# Altium schematic symbol library buffer_digital_isolator.SchLib: 40 symbols
Pins are listed as number, name and electrical type; pins without a type are passive.

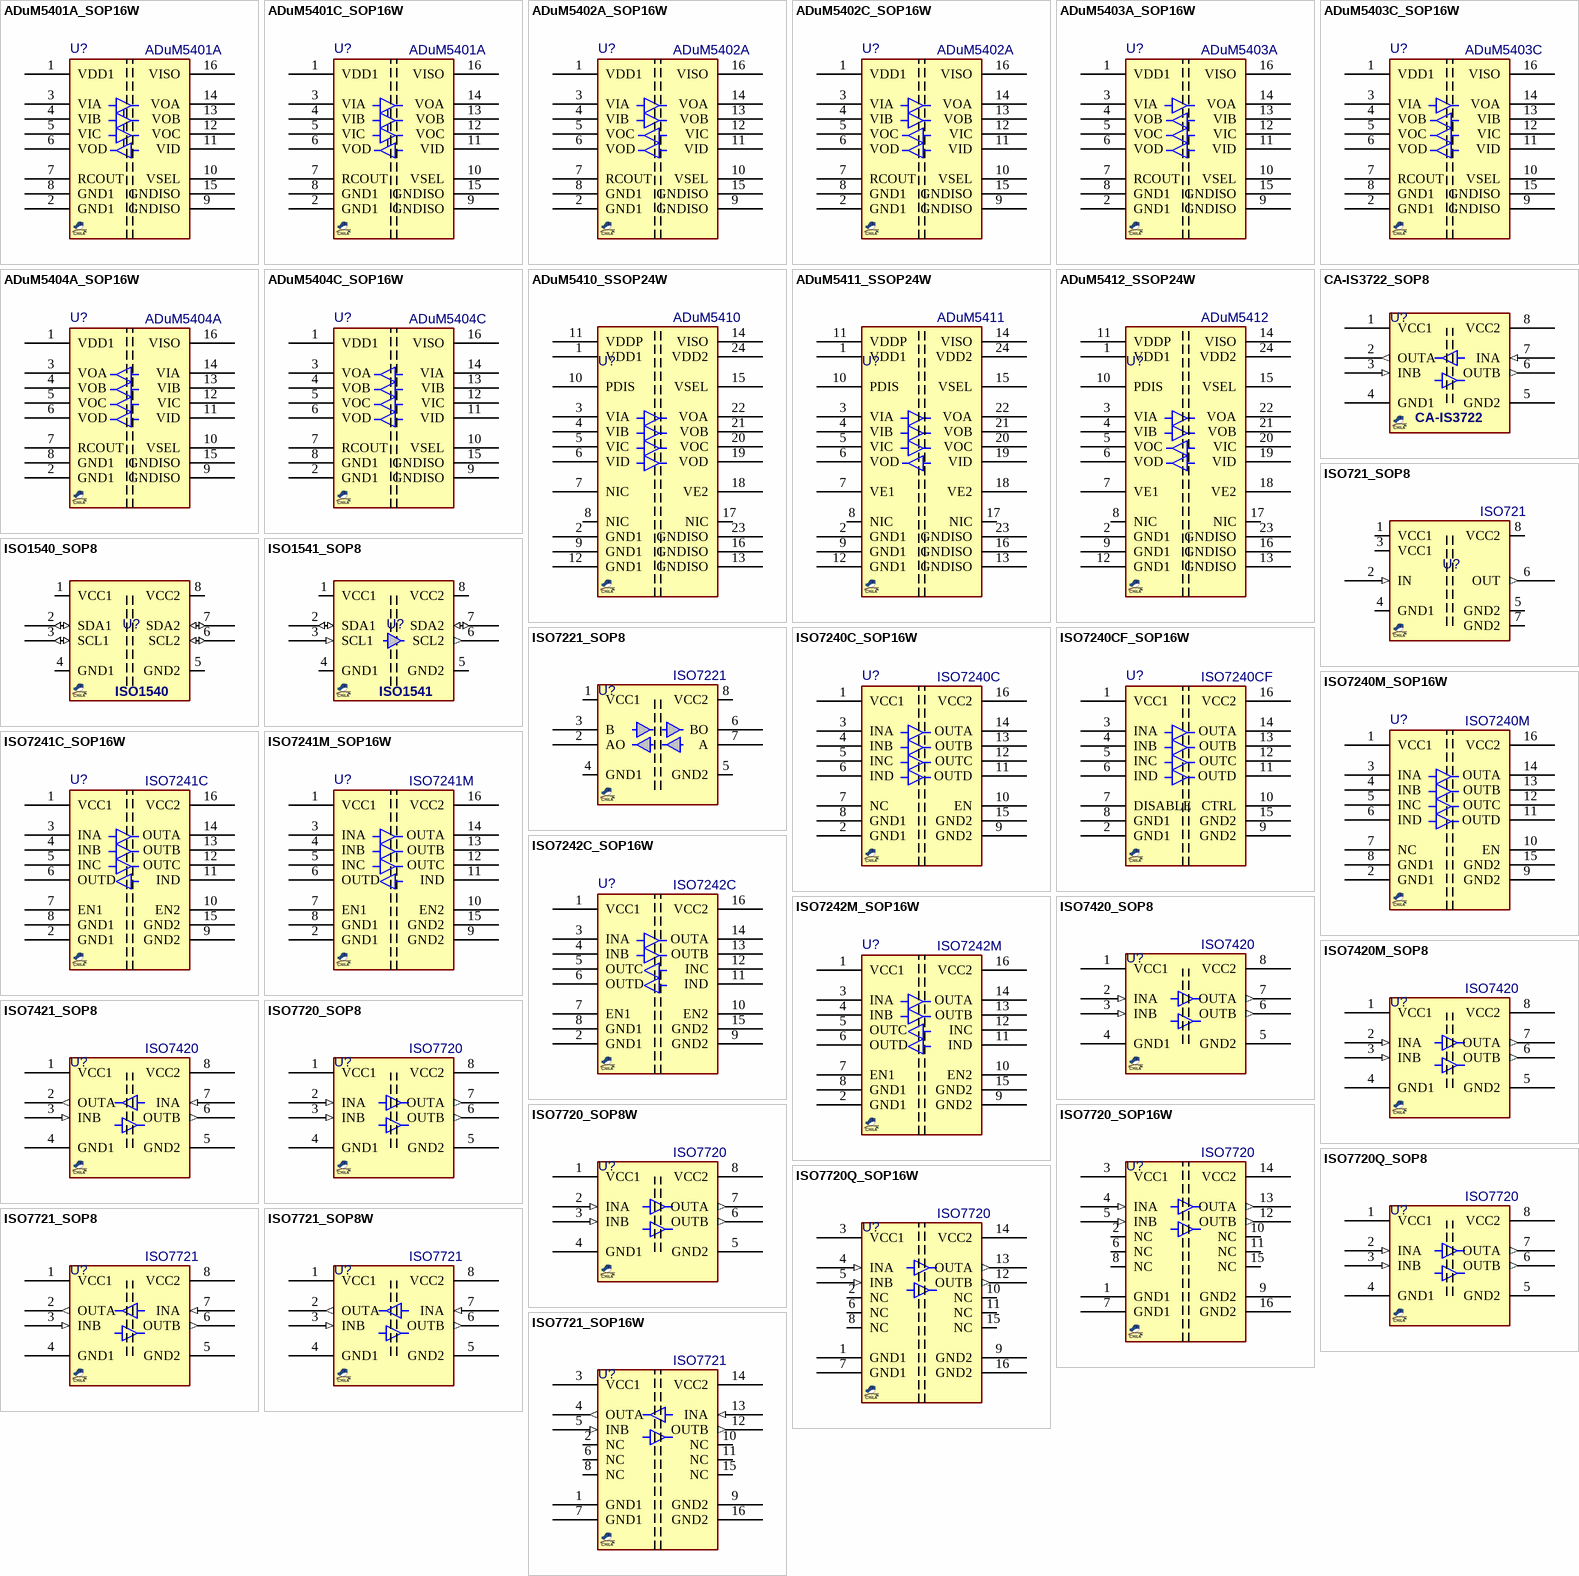
[diagram p0: symbols ADuM5401A_SOP16W to ISO7721_SOP16W]

## ADuM5401A_SOP16W
designator U?, comment ADuM5401A
Isolator, Quad, Integrated DC2DC 500mW; MANF: Analog Device; MANF_P#: ADuM5401ARWZ; PARAM2: 3~5.5Vcc, 500mW, 40ns PWDist; PARAM: 1Mbps, 100ns Tpd, -40~105°C; PRICE: 12$; PACKAGE: SOIC-16 WIDE; VALUE: ADuM5401A
footprint SO_16_W (SOP, SOIC, 7.5mm width, 1.27mm pitch,)
pins: 1 VDD1 (power), 2 GND1, 3 VIA, 4 VIB, 5 VIC, 6 VOD, 7 RCOUT, 8 GND1, 9 GNDISO, 10 VSEL, 11 VID, 12 VOC, 13 VOB, 14 VOA, 15 GNDISO, 16 VISO

## ADuM5401C_SOP16W
designator U?, comment ADuM5401A
Isolator, Quad, Integrated DC2DC 500mW; MANF: Analog Device; MANF_P#: ADuM5401CRWZ; PARAM2: 3~5.5Vcc, 500mW, 6ns PWDist; PARAM: 25Mbps, 60ns Tpd, -40~105°C; PRICE: 12$; PACKAGE: SOIC-16 WIDE; VALUE: ADuM5401A
footprint SO_16_W (SOP, SOIC, 7.5mm width, 1.27mm pitch,)
pins: 1 VDD1 (power), 2 GND1, 3 VIA, 4 VIB, 5 VIC, 6 VOD, 7 RCOUT, 8 GND1, 9 GNDISO, 10 VSEL, 11 VID, 12 VOC, 13 VOB, 14 VOA, 15 GNDISO, 16 VISO

## ADuM5402A_SOP16W
designator U?, comment ADuM5402A
Isolator, Quad, Integrated DC2DC 500mW; MANF: Analog Device; MANF_P#: ADuM5402ARWZ; PARAM2: 3~5.5Vcc, 500mW, 40ns PWDist; PARAM: 1Mbps, 100ns Tpd, -40~105°C; PRICE: 12$; PACKAGE: SOIC-16 WIDE; VALUE: ADuM5402A
footprint SO_16_W (SOP, SOIC, 7.5mm width, 1.27mm pitch,)
pins: 1 VDD1 (power), 2 GND1, 3 VIA, 4 VIB, 5 VOC, 6 VOD, 7 RCOUT, 8 GND1, 9 GNDISO, 10 VSEL, 11 VID, 12 VIC, 13 VOB, 14 VOA, 15 GNDISO, 16 VISO

## ADuM5402C_SOP16W
designator U?, comment ADuM5402A
Isolator, Quad, Integrated DC2DC 500mW; MANF: Analog Device; MANF_P#: ADuM5402CRWZ; PARAM2: 3~5.5Vcc, 500mW, 6ns PWDist; PARAM: 25Mbps, 60ns Tpd, -40~105°C; PRICE: 12$; PACKAGE: SOIC-16 WIDE; VALUE: ADuM5402A
footprint SO_16_W (SOP, SOIC, 7.5mm width, 1.27mm pitch,)
pins: 1 VDD1 (power), 2 GND1, 3 VIA, 4 VIB, 5 VOC, 6 VOD, 7 RCOUT, 8 GND1, 9 GNDISO, 10 VSEL, 11 VID, 12 VIC, 13 VOB, 14 VOA, 15 GNDISO, 16 VISO

## ADuM5403A_SOP16W
designator U?, comment ADuM5403A
Isolator, Quad, Integrated DC2DC 500mW; MANF: Analog Device; MANF_P#: ADuM5403ARWZ; PARAM2: 3~5.5Vcc, 500mW, 40ns PWDist; PARAM: 1Mbps, 100ns Tpd, -40~105°C; PRICE: 12$; PACKAGE: SOIC-16 WIDE; VALUE: ADuM5403A
footprint SO_16_W (SOP, SOIC, 7.5mm width, 1.27mm pitch,)
pins: 1 VDD1 (power), 2 GND1, 3 VIA, 4 VOB, 5 VOC, 6 VOD, 7 RCOUT, 8 GND1, 9 GNDISO, 10 VSEL, 11 VID, 12 VIC, 13 VIB, 14 VOA, 15 GNDISO, 16 VISO

## ADuM5403C_SOP16W
designator U?, comment ADuM5403C
Isolator, Quad, Integrated DC2DC 500mW; MANF: Analog Device; MANF_P#: ADuM5403CRWZ; PARAM2: 3~5.5Vcc, 500mW, 6ns PWDist; PARAM: 25Mbps, 60ns Tpd, -40~105°C; PRICE: 12$; PACKAGE: SOIC-16 WIDE; VALUE: ADuM5403C
footprint SO_16_W (SOP, SOIC, 7.5mm width, 1.27mm pitch,)
pins: 1 VDD1 (power), 2 GND1, 3 VIA, 4 VOB, 5 VOC, 6 VOD, 7 RCOUT, 8 GND1, 9 GNDISO, 10 VSEL, 11 VID, 12 VIC, 13 VIB, 14 VOA, 15 GNDISO, 16 VISO

## ADuM5404A_SOP16W
designator U?, comment ADuM5404A
Isolator, Quad, Integrated DC2DC 500mW; MANF: Analog Device; MANF_P#: ADuM5404ARWZ; PARAM2: 3~5.5Vcc, 500mW, 40ns PWDist; PARAM: 1Mbps, 100ns Tpd, -40~105°C; PRICE: 12$; PACKAGE: SOIC-16 WIDE; VALUE: ADuM5404A
footprint SO_16_W (SOP, SOIC, 7.5mm width, 1.27mm pitch,)
pins: 1 VDD1 (power), 2 GND1, 3 VOA, 4 VOB, 5 VOC, 6 VOD, 7 RCOUT, 8 GND1, 9 GNDISO, 10 VSEL, 11 VID, 12 VIC, 13 VIB, 14 VIA, 15 GNDISO, 16 VISO

## ADuM5404C_SOP16W
designator U?, comment ADuM5404C
Isolator, Quad, Integrated DC2DC 500mW; MANF: Analog Device; MANF_P#: ADuM5404CRWZ; PARAM2: 3~5.5Vcc, 500mW, 6ns PWDist; PARAM: 25Mbps, 60ns Tpd, -40~105°C; PRICE: 12$; PACKAGE: SOIC-16 WIDE; VALUE: ADuM5404C
footprint SO_16_W (SOP, SOIC, 7.5mm width, 1.27mm pitch,)
pins: 1 VDD1 (power), 2 GND1, 3 VOA, 4 VOB, 5 VOC, 6 VOD, 7 RCOUT, 8 GND1, 9 GNDISO, 10 VSEL, 11 VID, 12 VIC, 13 VIB, 14 VIA, 15 GNDISO, 16 VISO

## ADuM5410_SSOP24W
designator U?, comment ADuM5410
Isolator, Quad, Integrated DC2DC 100mW; MANF: Analog Device; MANF_P#: ADuM5410BRSZ; PARAM2: 3~5.5Vcc, 100mW, 3ns PWDist; PARAM: 150Mbps, 13ns Tpd, -40~105°C; PRICE: 7$; VALUE: ADuM5410; PACKAGE: SSSOP-24 WIDE
footprint SOG65_24_W (DB, SSOP24, TSSOP24, 0.65mm pitch, 5.3mm Width, SOT340-1, SOT355-1, MO-150AG, MO-153AD(JEDEC),)
pins: 1 VDD1, 2 GND1, 3 VIA, 4 VIB, 5 VIC, 6 VID, 7 NIC, 8 NIC, 9 GND1, 10 PDIS, 11 VDDP, 12 GND1, 13 GNDISO, 14 VISO, 15 VSEL, 16 GNDISO, 17 NIC, 18 VE2, 19 VOD, 20 VOC, 21 VOB, 22 VOA, 23 GNDISO, 24 VDD2

## ADuM5411_SSOP24W
designator U?, comment ADuM5411
Isolator, Quad, Integrated DC2DC 100mW; MANF: Analog Device; MANF_P#: ADuM5411BRSZ; PARAM2: 3~5.5Vcc, 100mW, 3ns PWDist; PARAM: 150Mbps, 13ns Tpd, -40~105°C; PRICE: 7$; VALUE: ADuM5411; PACKAGE: SSSOP-24 WIDE
footprint SOG65_24_W (DB, SSOP24, TSSOP24, 0.65mm pitch, 5.3mm Width, SOT340-1, SOT355-1, MO-150AG, MO-153AD(JEDEC),)
pins: 1 VDD1, 2 GND1, 3 VIA, 4 VIB, 5 VIC, 6 VOD, 7 VE1, 8 NIC, 9 GND1, 10 PDIS, 11 VDDP, 12 GND1, 13 GNDISO, 14 VISO, 15 VSEL, 16 GNDISO, 17 NIC, 18 VE2, 19 VID, 20 VOC, 21 VOB, 22 VOA, 23 GNDISO, 24 VDD2

## ADuM5412_SSOP24W
designator U?, comment ADuM5412
Isolator, Quad, Integrated DC2DC 100mW; MANF: Analog Device; MANF_P#: ADuM5412BRSZ; PARAM2: 3~5.5Vcc, 100mW, 3ns PWDist; PARAM: 150Mbps, 13ns Tpd, -40~105°C; PRICE: 7$; VALUE: ADuM5412; PACKAGE: SSSOP-24 WIDE
footprint SOG65_24_W (DB, SSOP24, TSSOP24, 0.65mm pitch, 5.3mm Width, SOT340-1, SOT355-1, MO-150AG, MO-153AD(JEDEC),)
pins: 1 VDD1, 2 GND1, 3 VIA, 4 VIB, 5 VOC, 6 VOD, 7 VE1, 8 NIC, 9 GND1, 10 PDIS, 11 VDDP, 12 GND1, 13 GNDISO, 14 VISO, 15 VSEL, 16 GNDISO, 17 NIC, 18 VE2, 19 VID, 20 VIC, 21 VOB, 22 VOA, 23 GNDISO, 24 VDD2

## CA-IS3722_SOP8
designator U?, comment CA-IS3722  (value not drawn)
Isolators, Dual, 40Mbps; MANF: Chipanalog; MANF_P#: CA-IS3722CHS; PARAM2: 3~5.5VCC, 22ns Tpd, 3ns Skew; PARAM: 3.75KVrms Isolation, 40Mbps, -40~125°C; PRICE: 3$; PACKAGE: SOP-8; VALUE: CA-IS3722
footprint SO_8
pins: 1 VCC1 (power), 2 OUTA (out), 3 INB (in), 4 GND1 (power), 5 GND2 (power), 6 OUTB (out), 7 INA (in), 8 VCC2 (power)

## ISO721_SOP8
designator U?, comment ISO721
Isolator, highspeed; MANF: Texas Instruments; MANF_P#: ISO721D, ISO721ID; PACKAGE: SOP-8; VALUE: ISO721
footprint SO_8 (SOP-8, 5x3.9mm body 1.27mm pitch, SOT96-1, M08A, S8, SOIC8, VO8, MS-012AA(JEDEC), R-8, 8S2, VOG8)
pins: 1 VCC1 (power), 2 IN (in), 3 VCC1 (power), 4 GND1 (power), 5 GND2 (power), 6 OUT (out), 7 GND2 (power), 8 VCC2 (power)

## ISO1540_SOP8
designator U?, comment ISO1540  (value not drawn)
Isolator, I2C, Bidirectional,; MANF: Texas Instruments; MANF_P#: ISO1540D, ISO1540QDRQ1, ISO1540QDQ1; PRICE: 5$; VALUE: ISO1540; PACKAGE: SOP-8
footprint SO_8 (SOP-8, 5x3.9mm body 1.27mm pitch, SOT96-1, M08A, S8, SOIC8, VO8, MS-012AA(JEDEC), R-8, 8S2, VOG8)
pins: 1 VCC1 (power), 2 SDA1 (io), 3 SCL1 (io), 4 GND1 (power), 5 GND2 (power), 6 SCL2 (io), 7 SDA2 (io), 8 VCC2 (power)

## ISO1541_SOP8
designator U?, comment ISO1541  (value not drawn)
Isolator, I2C, SDA Bidirectional, SCL unidirect; MANF: Texas Instruments; MANF_P#: ISO1541D, ISO1541QDRQ1, ISO1541QDQ1; PRICE: 5$; VALUE: ISO1541; PACKAGE: SOP-8
footprint SO_8 (SOP-8, 5x3.9mm body 1.27mm pitch, SOT96-1, M08A, S8, SOIC8, VO8, MS-012AA(JEDEC), R-8, 8S2, VOG8)
pins: 1 VCC1 (power), 2 SDA1 (io), 3 SCL1 (in), 4 GND1 (power), 5 GND2 (power), 6 SCL2 (out), 7 SDA2 (io), 8 VCC2 (power)

## ISO7221_SOP8
designator U?, comment ISO7221
Isolator, Dual, 2.5kV, 1Mbps; MANF: Texas Instruments; MANF_P#: ISO7221AD, ISO7221BD, ISO7221MD, ISO7221AQD; PACKAGE: SOP-8; VALUE: ISO7221
footprint SO_8 (SOP-8, 5x3.9mm body 1.27mm pitch, SOT96-1, M08A, S8, SOIC8, VO8, MS-012AA(JEDEC), R-8, 8S2, VOG8)
pins: 1 VCC1, 2 AO, 3 B, 4 GND1, 5 GND2, 6 BO, 7 A, 8 VCC2

## ISO7240C_SOP16W
designator U?, comment ISO7240C
Isolator, Quad,; MANF: Texas Instrument; MANF_P#: ISO7240CDW; PARAM2: 3.3/5Vcc, 2ns PWDist; PARAM: 25Mbps, 1ns Tpd, -40~105°C; PRICE: 6$; VALUE: ISO7240C; PACKAGE: SOIC-16 WIDE
footprint SO_16_W (SOP, SOIC, 7.5mm width, 1.27mm pitch,)
pins: 1 VCC1 (power), 2 GND1 (power), 3 INA (power), 4 INB (power), 5 INC (power), 6 IND (power), 7 NC (power), 8 GND1 (power), 9 GND2 (power), 10 EN (power), 11 OUTD (power), 12 OUTC (power), 13 OUTB (power), 14 OUTA (power), 15 GND2 (power), 16 VCC2 (power)

## ISO7240CF_SOP16W
designator U?, comment ISO7240CF
Isolator, Quad,; MANF: Texas Instrument; MANF_P#: ISO7240CFDW; PARAM2: 3.3/5Vcc, 2ns PWDist; PARAM: 25Mbps, 1ns Tpd, -40~105°C; PRICE: 6$; PACKAGE: SOIC-16 WIDE; VALUE: ISO7240CF
footprint SO_16_W (SOP, SOIC, 7.5mm width, 1.27mm pitch,)
pins: 1 VCC1 (power), 2 GND1 (power), 3 INA (power), 4 INB (power), 5 INC (power), 6 IND (power), 7 DISABLE (power), 8 GND1 (power), 9 GND2 (power), 10 CTRL (power), 11 OUTD (power), 12 OUTC (power), 13 OUTB (power), 14 OUTA (power), 15 GND2 (power), 16 VCC2 (power)

## ISO7240M_SOP16W
designator U?, comment ISO7240M
Isolator, Quad,; MANF: Texas Instrument; MANF_P#: ISO7240MDW; PARAM2: 3.3/5Vcc, 2ns PWDist; PARAM: 150Mbps, 1ns Tpd, -40~105°C; PRICE: 6$; VALUE: ISO7240M; PACKAGE: SOIC-16 WIDE
footprint SO_16_W (SOP, SOIC, 7.5mm width, 1.27mm pitch,)
pins: 1 VCC1 (power), 2 GND1 (power), 3 INA (power), 4 INB (power), 5 INC (power), 6 IND (power), 7 NC (power), 8 GND1 (power), 9 GND2 (power), 10 EN (power), 11 OUTD (power), 12 OUTC (power), 13 OUTB (power), 14 OUTA (power), 15 GND2 (power), 16 VCC2 (power)

## ISO7241C_SOP16W
designator U?, comment ISO7241C
Isolator, Quad,; MANF: Texas Instrument; MANF_P#: ISO7241CDW; PARAM2: 3.3/5Vcc, 2ns PWDist; PARAM: 25Mbps, 1ns Tpd, -40~105°C; PRICE: 6$; VALUE: ISO7241C; PACKAGE: SOIC-16 WIDE
footprint SO_16_W (SOP, SOIC, 7.5mm width, 1.27mm pitch,)
pins: 1 VCC1 (power), 2 GND1 (power), 3 INA (power), 4 INB (power), 5 INC (power), 6 OUTD (power), 7 EN1 (power), 8 GND1 (power), 9 GND2 (power), 10 EN2 (power), 11 IND (power), 12 OUTC (power), 13 OUTB (power), 14 OUTA (power), 15 GND2 (power), 16 VCC2 (power)

## ISO7241M_SOP16W
designator U?, comment ISO7241M
Isolator, Quad,; MANF: Texas Instrument; MANF_P#: ISO7241MDW; PARAM2: 3.3/5Vcc, 2ns PWDist; PARAM: 150Mbps, 1ns Tpd, -40~105°C; PRICE: 6$; VALUE: ISO7241M; PACKAGE: SOIC-16 WIDE
footprint SO_16_W (SOP, SOIC, 7.5mm width, 1.27mm pitch,)
pins: 1 VCC1 (power), 2 GND1 (power), 3 INA (power), 4 INB (power), 5 INC (power), 6 OUTD (power), 7 EN1 (power), 8 GND1 (power), 9 GND2 (power), 10 EN2 (power), 11 IND (power), 12 OUTC (power), 13 OUTB (power), 14 OUTA (power), 15 GND2 (power), 16 VCC2 (power)

## ISO7242C_SOP16W
designator U?, comment ISO7242C
Isolator, Quad,; MANF: Texas Instrument; MANF_P#: ISO7242CDW; PARAM2: 3.3/5Vcc, 2ns PWDist; PARAM: 25Mbps, 1ns Tpd, -40~105°C; PRICE: 6$; VALUE: ISO7242C; PACKAGE: SOIC-16 WIDE
footprint SO_16_W (SOP, SOIC, 7.5mm width, 1.27mm pitch,)
pins: 1 VCC1 (power), 2 GND1 (power), 3 INA (power), 4 INB (power), 5 OUTC (power), 6 OUTD (power), 7 EN1 (power), 8 GND1 (power), 9 GND2 (power), 10 EN2 (power), 11 IND (power), 12 INC (power), 13 OUTB (power), 14 OUTA (power), 15 GND2 (power), 16 VCC2 (power)

## ISO7242M_SOP16W
designator U?, comment ISO7242M
Isolator, Quad,; MANF: Texas Instrument; MANF_P#: ISO7242MDW; PARAM2: 3.3/5Vcc, 2ns PWDist; PARAM: 150Mbps, 1ns Tpd, -40~105°C; PRICE: 6$; VALUE: ISO7242M; PACKAGE: SOIC-16 WIDE
footprint SO_16_W (SOP, SOIC, 7.5mm width, 1.27mm pitch,)
pins: 1 VCC1 (power), 2 GND1 (power), 3 INA (power), 4 INB (power), 5 OUTC (power), 6 OUTD (power), 7 EN1 (power), 8 GND1 (power), 9 GND2 (power), 10 EN2 (power), 11 IND (power), 12 INC (power), 13 OUTB (power), 14 OUTA (power), 15 GND2 (power), 16 VCC2 (power)

## ISO7420_SOP8
designator U?, comment ISO7420
Isolators, Dual, Low-Power, 1Mbps; MANF: Texas Instruments; MANF_P#: ISO7420D; PARAM2: 3.3/5VCC, 9ns Tpd, 300ps Skew; PARAM: 2.5KVrms Isolation, -40~105°C; PRICE: 3$; PACKAGE: SOP-8; VALUE: ISO7420
footprint SO_8
pins: 1 VCC1 (power), 2 INA (in), 3 INB (in), 4 GND1 (power), 5 GND2 (power), 6 OUTB (out), 7 OUTA (out), 8 VCC2 (power)

## ISO7420M_SOP8
designator U?, comment ISO7420
Isolators, Dual, Low-Power, 1Mbps; MANF: Texas Instruments; MANF_P#: ISO7420D; PARAM2: 3.3/5VCC, 9ns Tpd, 300ps Skew; PARAM: 2.5KVrms Isolation, -40~125°C; PRICE: 3$; PACKAGE: SOP-8; VALUE: ISO7420
footprint SO_8
pins: 1 VCC1 (power), 2 INA (in), 3 INB (in), 4 GND1 (power), 5 GND2 (power), 6 OUTB (out), 7 OUTA (out), 8 VCC2 (power)

## ISO7421_SOP8
designator U?, comment ISO7420
Isolators, Dual, Low-Power, 1Mbps; MANF: Texas Instruments; MANF_P#: ISO7421D; PARAM2: 3.3/5VCC, 9ns Tpd, 300ps Skew; PARAM: 2.5KVrms Isolation, -40~105°C; PRICE: 3$; PACKAGE: SOP-8; VALUE: ISO7420
footprint SO_8
pins: 1 VCC1 (power), 2 OUTA (out), 3 INB (in), 4 GND1 (power), 5 GND2 (power), 6 OUTB (out), 7 INA (in), 8 VCC2 (power)

## ISO7720_SOP8
designator U?, comment ISO7720
Isolators, Dual, Low-Power, 100Mbps, 5KVrms; MANF: Texas Instruments; MANF_P#: ISO7720D; PARAM2: 2.25~5.5VCC, 11ns Tpd, 4ns Skew; PARAM: 5KVrms Isolation, -55~125°C; PRICE: 2$; VALUE: ISO7720; PACKAGE: SOP-8
footprint SO_8
pins: 1 VCC1 (power), 2 INA (in), 3 INB (in), 4 GND1 (power), 5 GND2 (power), 6 OUTB (out), 7 OUTA (out), 8 VCC2 (power)

## ISO7720_SOP8W
designator U?, comment ISO7720
Isolators, Dual, Low-Power, 100Mbps, 5KVrms; MANF: Texas Instruments; MANF_P#: ISO7720DWV; PARAM2: 2.25~5.5VCC, 11ns Tpd, 4ns Skew; PARAM: 5KVrms Isolation, -55~125°C; PRICE: 2$; VALUE: ISO7720; PACKAGE: SOP-8 WIDE
footprint SO_8_W (SOIC Width, 5x5.3mm body 0.5mm pitch, 5.28mm SOIJ)
pins: 1 VCC1 (power), 2 INA (in), 3 INB (in), 4 GND1 (power), 5 GND2 (power), 6 OUTB (out), 7 OUTA (out), 8 VCC2 (power)

## ISO7720_SOP16W
designator U?, comment ISO7720
Isolators, Dual, Low-Power, 100Mbps, 5KVrms; MANF: Texas Instruments; MANF_P#: ISO7720DW; PARAM2: 2.25~5.5VCC, 11ns Tpd, 4ns Skew; PARAM: 5KVrms Isolation, -55~125°C; PRICE: 2$; VALUE: ISO7720; PACKAGE: SOIC-16 WIDE
footprint SO_16_W (SOP, SOIC, 7.5mm width, 1.27mm pitch,)
pins: 1 GND1, 2 NC, 3 VCC1, 4 INA (in), 5 INB (in), 6 NC, 7 GND1, 8 NC, 9 GND2, 10 NC, 11 NC, 12 OUTB (out), 13 OUTA (out), 14 VCC2, 15 NC, 16 GND2

## ISO7720Q_SOP8
designator U?, comment ISO7720
Isolators, Dual, Low-Power, 100Mbps, 5KVrms; MANF: Texas Instruments; MANF_P#: ISO7720QD; PARAM2: 2.25~5.5VCC, 11ns Tpd, 4ns Skew; PARAM: 5KVrms Isolation, -55~125°C; PRICE: 2$; VALUE: ISO7720; PACKAGE: SOP-8
footprint SO_8
pins: 1 VCC1 (power), 2 INA (in), 3 INB (in), 4 GND1 (power), 5 GND2 (power), 6 OUTB (out), 7 OUTA (out), 8 VCC2 (power)

## ISO7720Q_SOP16W
designator U?, comment ISO7720
Isolators, Dual, Low-Power, 100Mbps, 5KVrms; MANF: Texas Instruments; MANF_P#: ISO7720QDW; PARAM2: 2.25~5.5VCC, 11ns Tpd, 4ns Skew; PARAM: 5KVrms Isolation, -55~125°C; PRICE: 2$; VALUE: ISO7720; PACKAGE: SOIC-16 WIDE
footprint SO_16_W (SOP, SOIC, 7.5mm width, 1.27mm pitch,)
pins: 1 GND1, 2 NC, 3 VCC1, 4 INA (in), 5 INB (in), 6 NC, 7 GND1, 8 NC, 9 GND2, 10 NC, 11 NC, 12 OUTB (out), 13 OUTA (out), 14 VCC2, 15 NC, 16 GND2

## ISO7721_SOP8
designator U?, comment ISO7721
Isolators, Dual, Low-Power, 100Mbps, 5KVrms; MANF: Texas Instruments; MANF_P#: ISO7721D; PARAM2: 2.25~5.5VCC, 11ns Tpd, 4ns Skew; PARAM: 5KVrms Isolation, -55~125°C; PRICE: 2$; VALUE: ISO7721; PACKAGE: SOP-8
footprint SO_8
pins: 1 VCC1 (power), 2 OUTA (out), 3 INB (in), 4 GND1 (power), 5 GND2 (power), 6 OUTB (out), 7 INA (in), 8 VCC2 (power)

## ISO7721_SOP8W
designator U?, comment ISO7721
Isolators, Dual, Low-Power, 100Mbps, 5KVrms; MANF: Texas Instruments; MANF_P#: ISO7721DWV; PARAM2: 2.25~5.5VCC, 11ns Tpd, 4ns Skew; PARAM: 5KVrms Isolation, -55~125°C; PRICE: 2$; VALUE: ISO7721; PACKAGE: SOP-8 WIDE
footprint SO_8_W (SOIC Width, 5x5.3mm body 0.5mm pitch, 5.28mm SOIJ)
pins: 1 VCC1 (power), 2 OUTA (out), 3 INB (in), 4 GND1 (power), 5 GND2 (power), 6 OUTB (out), 7 INA (in), 8 VCC2 (power)

## ISO7721_SOP16W
designator U?, comment ISO7721
Isolators, Dual, Low-Power, 100Mbps, 5KVrms; MANF: Texas Instruments; MANF_P#: ISO7721DW; PARAM2: 2.25~5.5VCC, 11ns Tpd, 4ns Skew; PARAM: 5KVrms Isolation, -55~125°C; PRICE: 2$; VALUE: ISO7721; PACKAGE: SOIC-16 WIDE
footprint SO_16_W (SOP, SOIC, 7.5mm width, 1.27mm pitch,)
pins: 1 GND1, 2 NC, 3 VCC1, 4 OUTA (out), 5 INB (in), 6 NC, 7 GND1, 8 NC, 9 GND2, 10 NC, 11 NC, 12 OUTB (out), 13 INA (in), 14 VCC2, 15 NC, 16 GND2

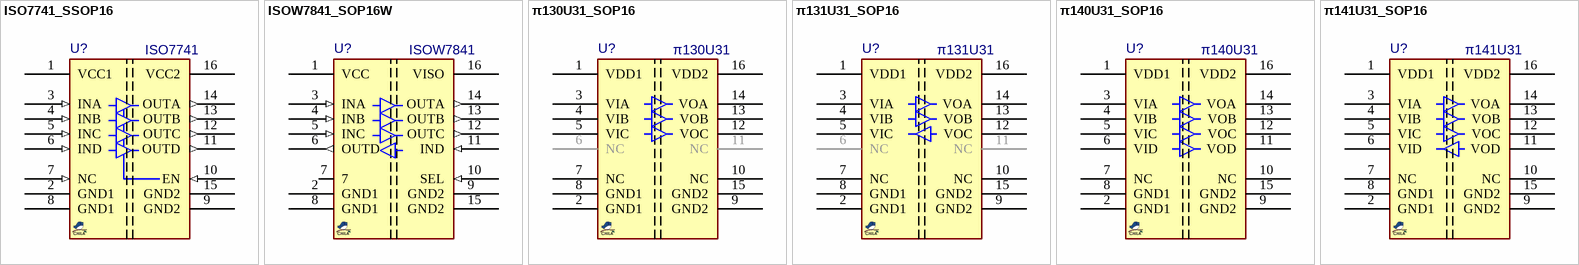
[diagram p1: symbols ISO7741_SSOP16 to π141U31_SOP16]

## ISO7741_SSOP16
designator U?, comment ISO7741
Isolator, Quad, Low-Power; MANF: Texas Instruments; MANF_P#: ISO7741DBQ; PACKAGE: SSOP-16; VALUE: ISO7741
footprint SOG63_16 (SOP DBQ, 16-Leads, Body 4.90x3.90mm, Pitch 0.635mm)
pins: 1 VCC1 (power), 2 GND1 (power), 3 INA (in), 4 INB (in), 5 INC (in), 6 IND (in), 7 NC (in), 8 GND1 (power), 9 GND2 (power), 10 EN (in), 11 OUTD (out), 12 OUTC (out), 13 OUTB (out), 14 OUTA (out), 15 GND2 (power), 16 VCC2 (power)

## ISOW7841_SOP16W
designator U?, comment ISOW7841
Isolator, Quad,; MANF: Texas Instrument; MANF_P#: ISOW7841DWE; PARAM2: 3~5.5Vcc; PARAM: 100Mbps, 13ns Tpd, -40~125°C; PRICE: 5$; PACKAGE: SOIC-16 WIDE; VALUE: ISOW7841
footprint SO_16_W (SOP, SOIC, 7.5mm width, 1.27mm pitch,)
pins: 1 VCC (power), 2 GND1 (power), 3 INA (in), 4 INB (in), 5 INC (in), 6 OUTD (out), 7, 8 GND1 (power), 9 GND2 (power), 10 SEL (in), 11 IND (in), 12 OUTC (out), 13 OUTB (out), 14 OUTA (out), 15 GND2 (power), 16 VISO (power)

## π130U31_SOP16
designator U?, comment π130U31
Isolator, Triple; MANF: 2PaiSEMI; PARAM2: 3~5.5Vcc, 3kVrms isolation; PARAM: 150kbps, -40~125°C; MANF_P#: π130U31; PRICE: 0.5$; PACKAGE: SOP-16; VALUE: π130U31
footprint SO_16 (SOP, SOIC, 3.9mm width, 1.27mm pitch,)
pins: 1 VDD1 (power), 2 GND1, 3 VIA, 4 VIB, 5 VIC, 6 NC, 7 NC, 8 GND1, 9 GND2, 10 NC, 11 NC, 12 VOC, 13 VOB, 14 VOA, 15 GND2, 16 VDD2

## π131U31_SOP16
designator U?, comment π131U31
Isolator, Triple; MANF: 2PaiSEMI; PARAM2: 3~5.5Vcc, 3kVrms isolation; PARAM: 150kbps, -40~125°C; MANF_P#: π131U31; PRICE: 0.5$; PACKAGE: SOP-16; VALUE: π131U31
footprint SO_16 (SOP, SOIC, 3.9mm width, 1.27mm pitch,)
pins: 1 VDD1 (power), 2 GND1, 3 VIA, 4 VIB, 5 VIC, 6 NC, 7 NC, 8 GND1, 9 GND2, 10 NC, 11 NC, 12 VOC, 13 VOB, 14 VOA, 15 GND2, 16 VDD2

## π140U31_SOP16
designator U?, comment π140U31
Isolator, Quad; MANF: 2PaiSEMI; PARAM2: 3~5.5Vcc, 3kVrms isolation; PARAM: 150kbps, -40~125°C; MANF_P#: π140U31; PRICE: 0.5$; PACKAGE: SOP-16; VALUE: π140U31
footprint SO_16 (SOP, SOIC, 3.9mm width, 1.27mm pitch,)
pins: 1 VDD1 (power), 2 GND1, 3 VIA, 4 VIB, 5 VIC, 6 VID, 7 NC, 8 GND1, 9 GND2, 10 NC, 11 VOD, 12 VOC, 13 VOB, 14 VOA, 15 GND2, 16 VDD2

## π141U31_SOP16
designator U?, comment π141U31
Isolator, Quad; MANF: 2PaiSEMI; PARAM2: 3~5.5Vcc, 3kVrms isolation; PARAM: 150kbps, -40~125°C; MANF_P#: π141U31; PRICE: 0.5$; PACKAGE: SOP-16; VALUE: π141U31
footprint SO_16 (SOP, SOIC, 3.9mm width, 1.27mm pitch,)
pins: 1 VDD1 (power), 2 GND1, 3 VIA, 4 VIB, 5 VIC, 6 VID, 7 NC, 8 GND1, 9 GND2, 10 NC, 11 VOD, 12 VOC, 13 VOB, 14 VOA, 15 GND2, 16 VDD2